# EAGLE library part ITAXXB1 (library st)
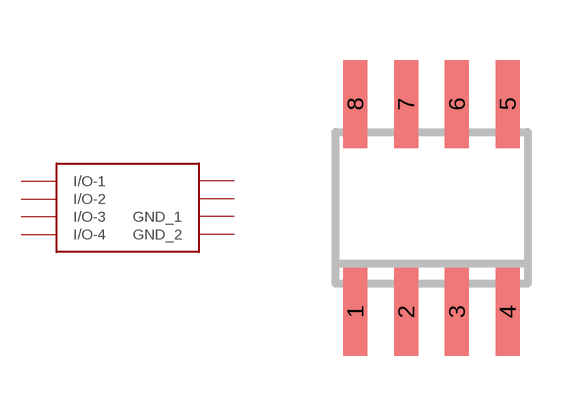
[diagram p7: symbol with the pads of SO8; footprint SO8]

Designator prefix -

## ITAXXB1  [SO8]
1  I/O-1
2  I/O-2
3  I/O-3
4  I/O-4
5  GND_1  pwr
6  NC_1  nc
7  NC_2  nc
8  GND_2  pwr

## Footprint SO8 (pad centres in mm)
8-Lead Small Outline IC (SO-8) Source: http://www.analog.com/UploadedFiles/Data_Sheets/703465986AD8611_2_0.pdf
smd 0.6 x 2.2: 1 -1.905,-2.6; 2 -0.635,-2.6; 3 0.635,-2.6; 4 1.905,-2.6; 5 1.905,2.6; 6 0.635,2.6; 7 -0.635,2.6; 8 -1.905,2.6